# EAGLE library part SFV30R-1STE1HLF (library SFV30R-1STE1HLF)
0.50mm Flex Connector, SFV-R Series, 30 Position, Bottom Side Contact, Side Entry Surface Mount ZIF Connector, Halogen Free, Lead Free, Matte Tin Plate. Source: Datasheet <https://cdn.amphenol-cs.com/media/wysiwyg/files/drawing/10112793.pdf>
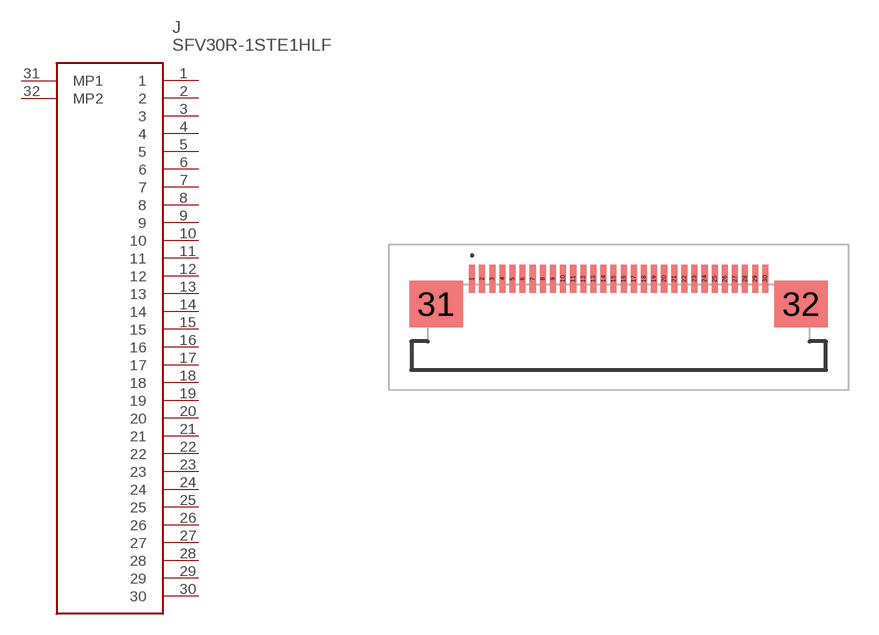
[diagram p0: symbol with the pads of SFV30R1STE1HLF; footprint SFV30R1STE1HLF]

Designator prefix J

## SFV30R-1STE1HLF (Description: 0.50mm Flex Connector, SFV-R Series, 30 Position, Bottom Side Contact, Side Entry Surface Mount ZIF Connector, Halogen Free, Lead Free, Matte Tin Plate.; Height: 2mm; Manufacturer_Name: Amphenol Communications Solutions; Manufacturer_Part_Number: SFV30R-1STE1HLF)  [SFV30R1STE1HLF]
1  1
2  2
3  3
4  4
5  5
6  6
7  7
8  8
9  9
10  10
11  11
12  12
13  13
14  14
15  15
16  16
17  17
18  18
19  19
20  20
21  21
22  22
23  23
24  24
25  25
26  26
27  27
28  28
29  29
30  30
31  MP1
32  MP2

## Footprint SFV30R1STE1HLF (pad centres in mm)
SFV30R-1STE1HLF-1
smd 0.3 x 1.4: 1 -7.25,1.9; 2 -6.75,1.9; 3 -6.25,1.9; 4 -5.75,1.9; 5 -5.25,1.9; 6 -4.75,1.9; 7 -4.25,1.9; 8 -3.75,1.9; 9 -3.25,1.9; 10 -2.75,1.9; 11 -2.25,1.9; 12 -1.75,1.9; 13 -1.25,1.9; 14 -0.75,1.9; 15 -0.25,1.9; 16 0.25,1.9; 17 0.75,1.9; 18 1.25,1.9; 19 1.75,1.9; 20 2.25,1.9; 21 2.75,1.9; 22 3.25,1.9; 23 3.75,1.9; 24 4.25,1.9; 25 4.75,1.9; 26 5.25,1.9; 27 5.75,1.9; 28 6.25,1.9; 29 6.75,1.9; 30 7.25,1.9
smd 2.65 x 2.3: 31 -9.025,0.65; 32 9.025,0.65